# EAGLE library part W25Q16JV (library FLASHMemory)
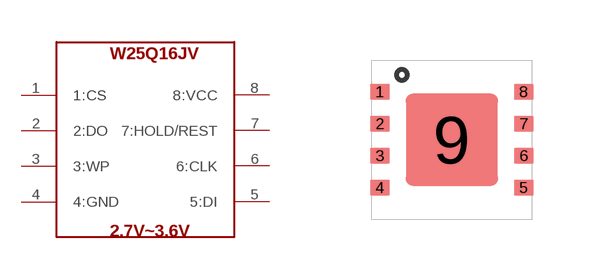
[diagram p2: symbol with the pads of W25Q16J_XSON; footprint W25Q16J_XSON]

Designator prefix -

## W25Q16JV  [W25Q16J_XSON]
1  1:CS  in
2  2:DO
3  3:WP
4  4:GND
5  5:DI
6  6:CLK  in
7  7:HOLD/REST
8  8:VCC

## Footprint W25Q16J_XSON (pad centres in mm)
smd 0.5 x 0.4: 1 -1.8,1.2; 2 -1.8,0.4; 3 -1.8,-0.4; 4 -1.8,-1.2; 5 1.8,-1.2; 6 1.8,-0.4; 7 1.8,0.4; 8 1.8,1.2
smd 2.3 x 2.3: 9 0,0